# EAGLE library part MOLEX_504050-0691 (library Molex 504050)
Conn Wire to Board HDR 5 POS 1.5mm Solder RA SMD Pico-Lock
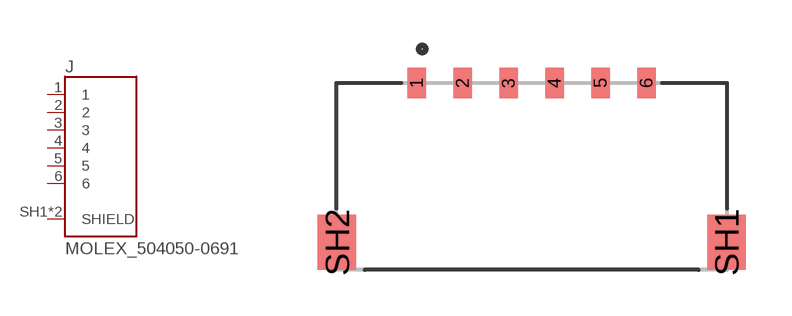
[diagram p1: symbol with the pads of MOLEX_5040500691; footprint MOLEX_5040500691]

Designator prefix J

## MOLEX_504050-0691 (AVAILABILITY: Good; DESCRIPTION: Conn Wire to Board HDR 5 POS 1.5mm Solder RA SMD Pico-Lock; MF: Molex; MP: 5040500491; PACKAGE: None)  [MOLEX_5040500691]
1  1  pas
2  2  pas
3  3  pas
4  4  pas
5  5  pas
6  6  pas
SH1  SHIELD  pwr
SH2  SHIELD  pwr

## Footprint MOLEX_5040500691 (pad centres in mm)
smd 0.6 x 1: 1 -3.75,3.04; 2 -2.25,3.04; 3 -0.75,3.04; 4 0.75,3.04; 5 2.25,3.04; 6 3.75,3.04
smd 1.25 x 1.8: SH1 6.355,-2.15; SH2 -6.355,-2.15